# Altium schematic symbol library Resistors.SchLib: 4 symbols
Pins are listed as number, name and electrical type; pins without a type are passive.

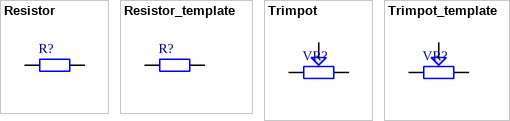
[diagram p0: symbols Resistor to Trimpot_template]

## Resistor
designator R?
# of Pins: 2; Mfr Part #: *; Case/Package: *; Manufacturer: *; Supplier 1: Digikey; Supplier 1 Part #: *; Supplier 2: Mouser; Supplier 2 Part #: *; Supplier 3: *; Supplier 3 Part #: *
footprint R0603 (0603 SMD Resistor)
footprint R0805 (0805 SMD Resistor)
pins: 1, 2

## Resistor_template
designator R?
# of Pins: 2; Mfr Part #: *; Case/Package: *; Manufacturer: *; Supplier 1: Digikey; Supplier 1 Part #: *; Supplier 2: Mouser; Supplier 2 Part #: *; Supplier 3: *; Supplier 3 Part #: *
footprint R0603 (0603 SMD Resistor)
footprint R0805 (0805 SMD Resistor)
pins: 1, 2

## Trimpot
designator VR?
# of Pins: 3; Mfr Part #: *; Case/Package: *; Manufacturer: *; Supplier 1: Digikey; Supplier 1 Part #: *; Supplier 2: Mouser; Supplier 2 Part #: *; Supplier 3: *; Supplier 3 Part #: *
footprint Trimpot_1 (Amphenol N6L50T0C-103, 5x5,1mm diameter)
pins: 1, 2, 3

## Trimpot_template
designator VR?
# of Pins: 3; Mfr Part #: *; Case/Package: *; Manufacturer: *; Supplier 1: Digikey; Supplier 1 Part #: *; Supplier 2: Mouser; Supplier 2 Part #: *; Supplier 3: *; Supplier 3 Part #: *
footprint Trimpot_1 (Amphenol N6L50T0C-103, 5x5,1mm diameter)
pins: 1, 2, 3